# Altium schematic symbol library JST-XH SMD 2.5mm 6-pos Right-Angle.Schlib: 1 symbol
Pins are listed as number, name and electrical type; pins without a type are passive.

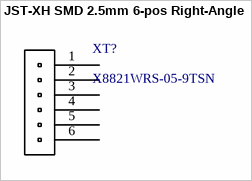
[diagram p0: symbol JST-XH SMD 2.5mm 6-pos Right-Angle]

## JST-XH SMD 2.5mm 6-pos Right-Angle
designator XT?, comment X8821WRS-05-9TSN
XH Header Male Pin Right-Angle 0.098"(2.50mm) 5 SMD,P=2.5mm Wire To Board / Wire To Wire Connector RoHS; ComponentLink1Description: LCSC - XKB Connectivity X8821WRS-05-9TSN; ComponentLink1URL: https://lcsc.com/product-detail/Wire-To-Board-Wire-To-Wire-Connector_XKB-Connectivity-X8821WRS-05-9TSN_C397435.html; LCSC Part #: C397435; JLCPCB Part Type: unvailable
footprint JST XH SMD 2.5mm 6-pos
pins: 1, 2, 3, 4, 5, 6